# EAGLE library part LT6203CMS8PBF (library custom_dzmitry)
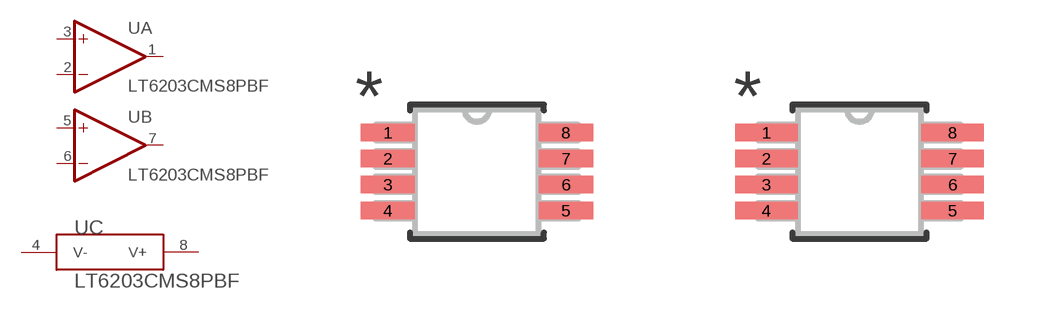
[diagram p12: symbol with the pads of MSOP-8_MS_LIT; footprints MSOP-8_MS_LIT, MSOP-8_MS_LIT-M]

Designator prefix U; gates A=OPAMP B=OPAMP C=LT6203POWER

## LT6203CMS8PBF (BUILT_BY: EMA_UL_Team; MANUFACTURER_PART_NUMBER: LT6203CMS8#PBF; SOURCELIBRARY: LinearTech_2016-05-13_3; VENDOR: Linear Technology)  [MSOP-8_MS_LIT]
1  A:OUT  out
2  A:-IN  in
3  A:+IN  in
4  C:V-  pwr
5  B:+IN  in
6  B:-IN  in
7  B:OUT  out
8  C:V+  pwr

## LT6203CMS8PBFMSOP-8_MS_LIT-M (BUILT_BY: EMA_UL_Team; MANUFACTURER_PART_NUMBER: LT6203CMS8#PBF; SOURCELIBRARY: LinearTech_2016-05-13_3; VENDOR: Linear Technology)  [MSOP-8_MS_LIT-M]
Pads as for MSOP-8_MS_LIT

## LT6203CMS8PBFMSOP-8_MS_LIT-L (BUILT_BY: EMA_UL_Team; MANUFACTURER_PART_NUMBER: LT6203CMS8#PBF; SOURCELIBRARY: LinearTech_2016-05-13_3; VENDOR: Linear Technology)  [MSOP-8_MS_LIT-L]
Pads as for MSOP-8_MS_LIT

## Footprint MSOP-8_MS_LIT (pad centres in mm)
smd 1.359 x 0.432: 1 -2.229,0.975; 2 -2.229,0.325; 3 -2.229,-0.325; 4 -2.229,-0.975; 5 2.229,-0.975; 6 2.229,-0.325; 7 2.229,0.325; 8 2.229,0.975

## Footprint MSOP-8_MS_LIT-M (pad centres in mm)
smd 1.562 x 0.432: 1 -2.33,0.975; 2 -2.33,0.325; 3 -2.33,-0.325; 4 -2.33,-0.975; 5 2.33,-0.975; 6 2.33,-0.325; 7 2.33,0.325; 8 2.33,0.975

## Footprint MSOP-8_MS_LIT-L (pad centres in mm)
smd 1.092 x 0.381: 1 -2.159,0.975; 2 -2.159,0.325; 3 -2.159,-0.325; 4 -2.159,-0.975; 5 2.159,-0.975; 6 2.159,-0.325; 7 2.159,0.325; 8 2.159,0.975